# EAGLE library part CH340 (library SW_Communications)
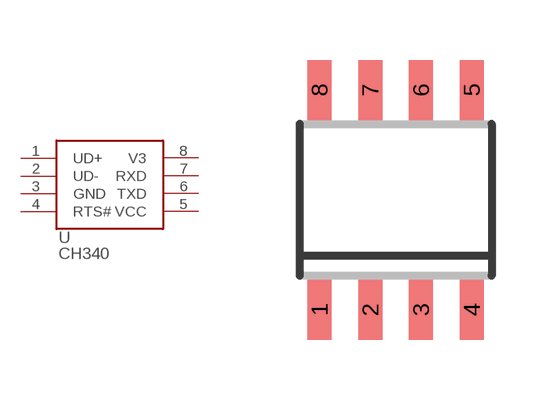
[diagram p7: symbol with the pads of SOIC8; footprint SOIC8]

Designator prefix U

## CH340 (CATEGORY: Communications; DESCRIPTION: USB to UART Bridge; MFGS: WCH; MPNS: CH340N; PACKAGE: SOIC-8; PART_NUMBER: CH340N; SW_PART_NUMBER: SW0000866)  [SOIC8]
1  UD+  in
2  UD-  in
3  GND  pwr
4  RTS#  out
5  VCC  pwr
6  TXD  out
7  RXD  in
8  V3  pwr

## Footprint SOIC8 (pad centres in mm)
SOIC-8 CASE 751-07 Source: http://www.onsemi.com/pub/Collateral/MC34164-D.PDF D (R-PDSO-G8)PLATIC SMALL-OUTLINE PACKAGE Source: http://focus.ti.com/lit/ds/symlink/tlc27l2.pdf
smd 0.6 x 1.5: 1 -1.905,-2.75; 2 -0.635,-2.75; 3 0.635,-2.75; 4 1.905,-2.75; 5 1.905,2.75; 6 0.635,2.75; 7 -0.635,2.75; 8 -1.905,2.75